# Altium schematic symbol library ZTS6117.SchLib: 1 symbol
Pins are listed as number, name and electrical type; pins without a type are passive.

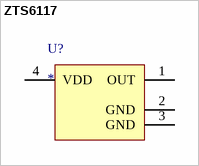
[diagram p0: symbol ZTS6117]

## ZTS6117
designator U?
Low Noise Top Port MEMS Microphone
footprint ZTS6117
pins: 1 OUT, 2 GND, 3 GND, 4 VDD